# Altium schematic symbol library SCW20A-15.SchLib: 1 symbol
Pins are listed as number, name and electrical type; pins without a type are passive.

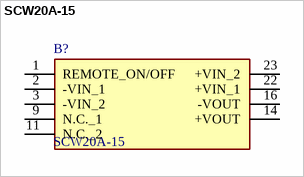
[diagram p0: symbol SCW20A-15]

## SCW20A-15
designator B?
Module DC-DC 12VIN 1-OUT 15V 1.333A 20W 9-Pin DIP Module; Manufacturer_Name: Mean Well; Geometry.Height: 12.7mm; Mouser Part Number: 709-SCW20A-15; Mouser Price/Stock: https://www.mouser.com/Search/Refine.aspx?Keyword=709-SCW20A-15; Manufacturer_Part_Number: SCW20A-15; Datasheet Link: https://www.meanwell-web.com/content/files/pdfs/productPdfs/MW/SCW20/SCW20-spec.pdf
footprint SCW20A15
pins: 1 REMOTE_ON/OFF, 2 -VIN_1, 3 -VIN_2, 9 N.C._1, 11 N.C._2, 14 +VOUT, 16 -VOUT, 22 +VIN_1, 23 +VIN_2